# Altium footprint library ICs.PcbLib: 17 footprints (part 1 of 2)
Each footprint in its own frame and in the unit in brackets; x right, y up, seen from the top. Pads: shape width x height; smd on the part's side, far side on the other; paste and mask are expansions set on the pad; w line width, h text height; cw(c..) or ccw(c..) is an arc to the next point about the centre after c.
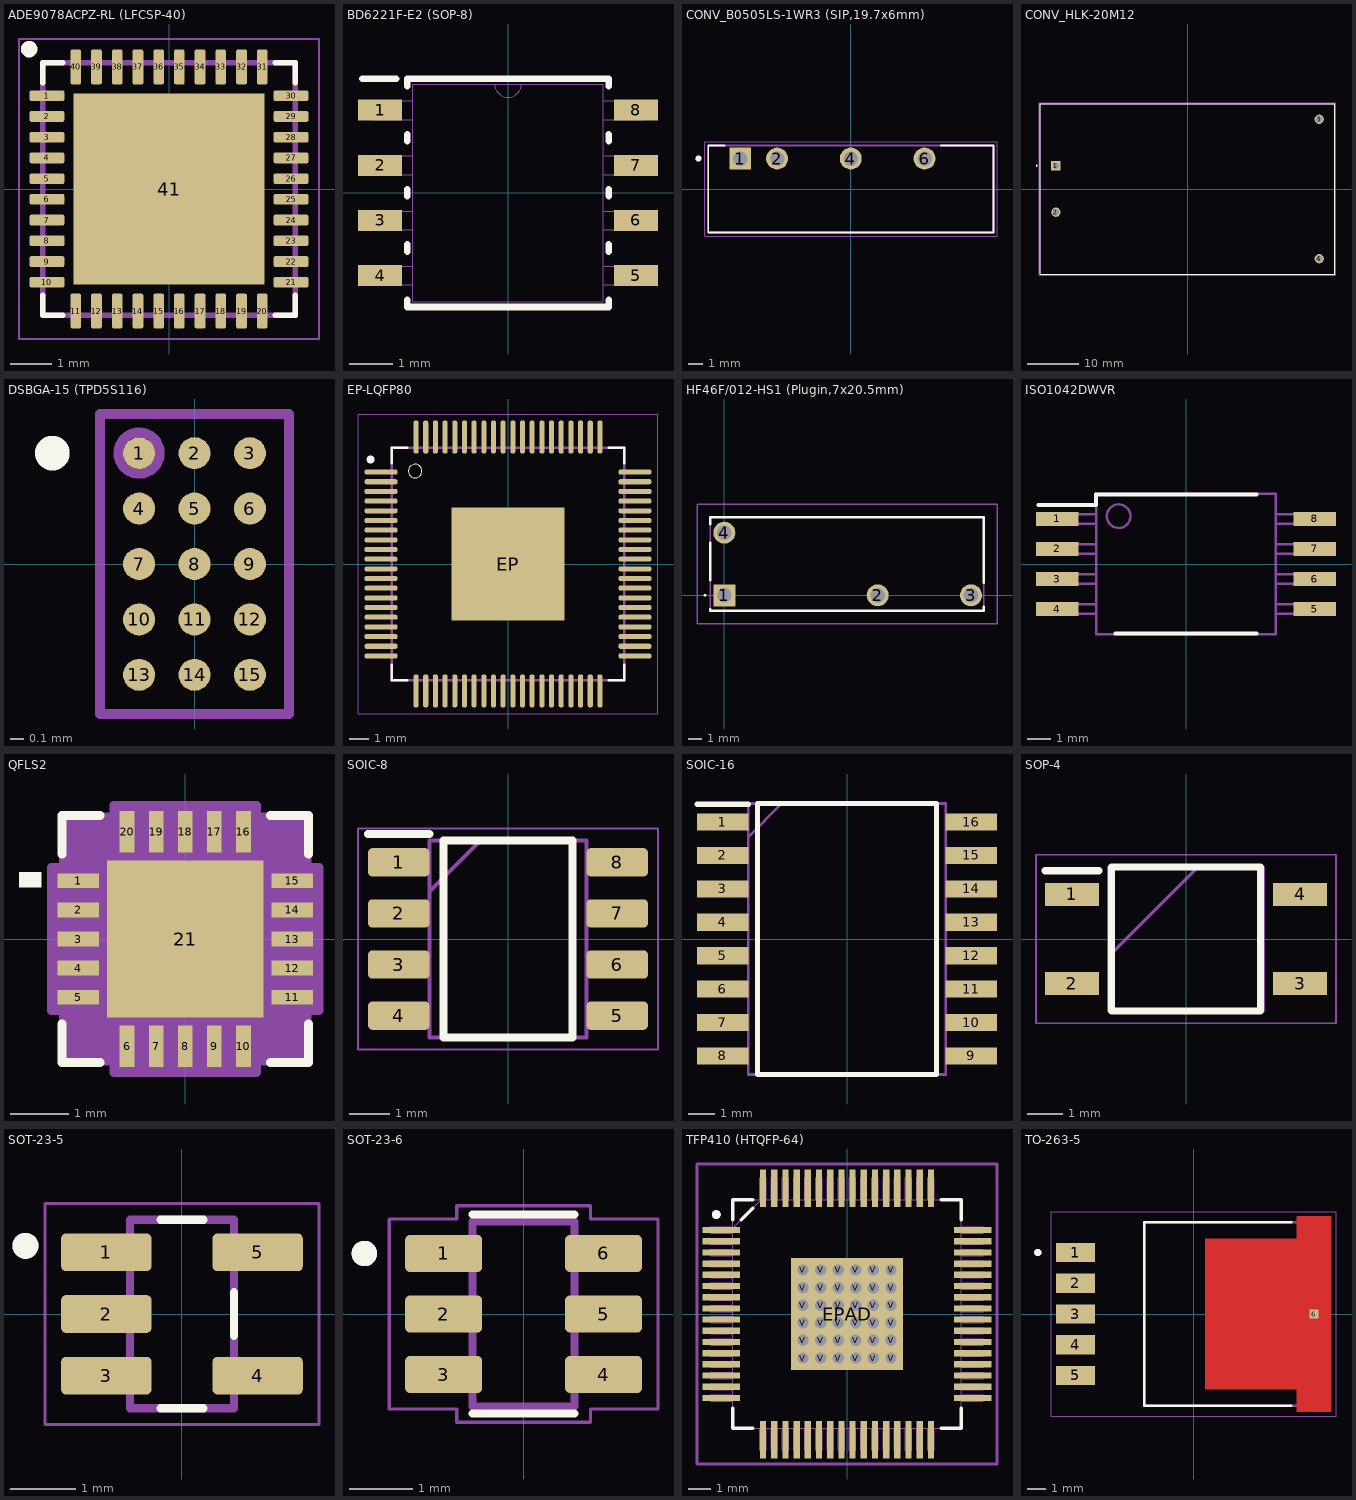
[diagram p0: the footprints below, top view; thin cyan lines are the x and y axes]

## ADE9078ACPZ-RL (LFCSP-40) [mm]
pads (41):
  rrect35% 0.84x0.26 smd: 1(-2.945,2.25) 2(-2.945,1.75) 3(-2.945,1.25) 4(-2.945,0.75) 5(-2.945,0.25) 6(-2.945,-0.25) 7(-2.945,-0.75) 8(-2.945,-1.25) 9(-2.945,-1.75) 10(-2.945,-2.25) 21(2.945,-2.25) 22(2.945,-1.75) 23(2.945,-1.25) 24(2.945,-0.75) 25(2.945,-0.25) 26(2.945,0.25) 27(2.945,0.75) 28(2.945,1.25) 29(2.945,1.75) 30(2.945,2.25)
  rrect35% 0.26x0.84 smd: 11(-2.25,-2.945) 12(-1.75,-2.945) 13(-1.25,-2.945) 14(-0.75,-2.945) 15(-0.25,-2.945) 16(0.25,-2.945) 17(0.75,-2.945) 18(1.25,-2.945) 19(1.75,-2.945) 20(2.25,-2.945) 31(2.25,2.945) 32(1.75,2.945) 33(1.25,2.945) 34(0.75,2.945) 35(0.25,2.945) 36(-0.25,2.945) 37(-0.75,2.945) 38(-1.25,2.945) 39(-1.75,2.945) 40(-2.25,2.945)
  rect 4.6x4.6 smd paste-3: 41(0,0)
Top Overlay:
  circle w0.2: c-3.375,3.375 r0.1
  lines w0.127: -3.05,-2.56 -3.05,-3.05 -2.56,-3.05 ; -3.05,2.56 -3.05,3.05 -2.56,3.05 ; 2.56,-3.05 3.05,-3.05 3.05,-2.56 ; 2.56,3.05 3.05,3.05 3.05,2.56
Top Paste:
  region: 1.455,-1.456 -1.456,-1.456 -1.456,1.455 1.455,1.455
Top Solder:
  region: 2.29,-2.291 -2.291,-2.291 -2.291,2.29 2.29,2.29
Mechanical 13:
  lines w0.127: -3.05,-3.05 3.05,-3.05 3.05,3.05 -3.05,3.05 -3.05,-3.05
Mechanical 15:
  lines w0.05: -3.62,-3.62 3.62,-3.62 3.62,3.62 -3.62,3.62 -3.62,-3.62
3D body "ADE9078ACPZ.STEP": height 0.8, standoff 0, extent -3,-3 3,3

## BD6221F-E2 (SOP-8) [mil]
pads (8):
  rect 40x19 smd paste+0 mask+4: 1(-116,75) 2(-116,25) 3(-116,-25) 4(-116,-75) 5(116,-75) 6(116,-25) 7(116,25) 8(116,75)
Top Overlay:
  lines w5.98: -131.89,103.35 -101.38,103.54
  lines w6: -91.5,-96.8 -91.5,-103.5 91.5,-103.5 91.5,-96.8 ; -91.5,-53.2 -91.5,-46.8 ; -91.5,-3.2 -91.5,3.2 ; -91.5,46.8 -91.5,53.2 ; -91.5,96.8 -91.5,103.5 91.5,103.5 91.5,96.8 ; 91.5,-53.2 91.5,-46.8 ; 91.5,-3.2 91.5,3.2 ; 91.5,46.8 91.5,53.2
Mechanical 13:
  lines w0: -12,98.5 ccw(c0,98.5) 12,98.5
  lines w1: -122,-83.5 -122,-66.5 -86.5,-66.5 -86.5,-83.5 -122,-83.5 ; -122,-33.5 -122,-16.5 -86.5,-16.5 -86.5,-33.5 -122,-33.5 ; -122,16.5 -122,33.5 -86.5,33.5 -86.5,16.5 -122,16.5 ; -122,66.5 -122,83.5 -86.5,83.5 -86.5,66.5 -122,66.5 ; -86.5,-98.5 86.5,-98.5 86.5,98.5 -86.5,98.5 -86.5,-98.5 ; 86.5,-83.5 86.5,-66.5 122,-66.5 122,-83.5 86.5,-83.5 ; 86.5,-33.5 86.5,-16.5 122,-16.5 122,-33.5 86.5,-33.5 ; 86.5,16.5 86.5,33.5 122,33.5 122,16.5 86.5,16.5 ; 86.5,66.5 86.5,83.5 122,83.5 122,66.5 86.5,66.5
3D body "SOP8_ROM.step": height 59.09, standoff 0, extent -122.01,-98.5 122.01,98.5

## CONV_B0505LS-1WR3 (SIP,19.7x6mm) [mm]
pads (4):
  rect 1.508x1.508 hole 1: 1(-7.62,2.1)
  round 1.508 hole 1: 2(-5.08,2.1) 4(0,2.1) 6(5.08,2.1)
Top Overlay:
  circle w0.2: c-10.5,2.1 r0.1
  lines w0.127: -8.7,3 -9.825,3 -9.825,-3 9.825,-3 9.825,3 6.2,3
Mechanical 13:
  circle w0.2: c-10.5,2.1 r0.1
  lines w0.127: -9.825,-3 9.825,-3 9.825,3 -9.825,3 -9.825,-3
Mechanical 15:
  lines w0.05: -10.075,-3.25 -10.075,3.25 10.075,3.25 10.075,-3.25 -10.075,-3.25
3D body "step_temp.STEP": height 10.16, standoff -4.1, extent -9.825,-3 9.825,3

## CONV_HLK-20M12 [mm]
pads (4):
  rect 1.8x1.8 hole 1.2: 1(-25.5,4.5)
  round 1.8 hole 1.2: 2(-25.5,-4.5) 3(25.5,13.5) 4(25.5,-13.5)
Top Overlay:
  circle w0.2: c-29.25,4.5 r0.1
  lines w0.127: -28.5,-16.5 -28.5,16.5 28.5,16.5 28.5,-16.5 -28.5,-16.5
Mechanical 13:
  circle w0.2: c-29.25,4.5 r0.1
  lines w0.127: -28.5,-16.5 -28.5,16.5 28.5,16.5 28.5,-16.5 -28.5,-16.5
Mechanical 15:
  lines w0.05: -28.75,-16.75 -28.75,16.75 28.75,16.75 28.75,-16.75 -28.75,-16.75
3D body "step_temp.STEP": height 22.5, standoff -5, extent -28.5,-16.5 28.5,16.5

## DSBGA-15 (TPD5S116) [mm]
pads (15):
  round 0.23 smd paste-0.102 mask+0.038: 1(-0.4,0.8) 2(0,0.8) 3(0.4,0.8) 4(-0.4,0.4) 5(0,0.4) 6(0.4,0.4) 7(-0.4,0) 8(0,0) 9(0.4,0) 10(-0.4,-0.4) 11(0,-0.4) 12(0.4,-0.4) 13(-0.4,-0.8) 14(0,-0.8) 15(0.4,-0.8)
Top Overlay:
  circle w0.2: c-1.025,0.8 r0.025
Top Paste:
  region: 0.325,0.275 0.275,0.325 0.275,0.475 0.325,0.525 0.475,0.525 0.525,0.475 0.525,0.325 0.475,0.275
  region: 0.325,-0.125 0.275,-0.075 0.275,0.075 0.325,0.125 0.475,0.125 0.525,0.075 0.525,-0.075 0.475,-0.125
  region: 0.325,-0.525 0.275,-0.475 0.275,-0.325 0.325,-0.275 0.475,-0.275 0.525,-0.325 0.525,-0.475 0.475,-0.525
  region: 0.325,-0.925 0.275,-0.875 0.275,-0.725 0.325,-0.675 0.475,-0.675 0.525,-0.725 0.525,-0.875 0.475,-0.925
  region: 0.325,0.675 0.275,0.725 0.275,0.875 0.325,0.925 0.475,0.925 0.525,0.875 0.525,0.725 0.475,0.675
  region: -0.075,0.275 -0.125,0.325 -0.125,0.475 -0.075,0.525 0.075,0.525 0.125,0.475 0.125,0.325 0.075,0.275
  region: -0.075,-0.125 -0.125,-0.075 -0.125,0.075 -0.075,0.125 0.075,0.125 0.125,0.075 0.125,-0.075 0.075,-0.125
  region: -0.075,-0.525 -0.125,-0.475 -0.125,-0.325 -0.075,-0.275 0.075,-0.275 0.125,-0.325 0.125,-0.475 0.075,-0.525
  region: -0.075,-0.925 -0.125,-0.875 -0.125,-0.725 -0.075,-0.675 0.075,-0.675 0.125,-0.725 0.125,-0.875 0.075,-0.925
  region: -0.075,0.675 -0.125,0.725 -0.125,0.875 -0.075,0.925 0.075,0.925 0.125,0.875 0.125,0.725 0.075,0.675
  region: -0.475,0.275 -0.525,0.325 -0.525,0.475 -0.475,0.525 -0.325,0.525 -0.275,0.475 -0.275,0.325 -0.325,0.275
  region: -0.475,-0.125 -0.525,-0.075 -0.525,0.075 -0.475,0.125 -0.325,0.125 -0.275,0.075 -0.275,-0.075 -0.325,-0.125
  region: -0.475,-0.525 -0.525,-0.475 -0.525,-0.325 -0.475,-0.275 -0.325,-0.275 -0.275,-0.325 -0.275,-0.475 -0.325,-0.525
  region: -0.475,-0.925 -0.525,-0.875 -0.525,-0.725 -0.475,-0.675 -0.325,-0.675 -0.275,-0.725 -0.275,-0.875 -0.325,-0.925
  region: -0.475,0.675 -0.525,0.725 -0.525,0.875 -0.475,0.925 -0.325,0.925 -0.275,0.875 -0.275,0.725 -0.325,0.675
Mechanical 13:
  circle w0.07: c-0.4,0.8 r0.15
  lines w0.07: -0.682,-1.082 -0.682,1.082 0.682,1.082 0.682,-1.082 -0.682,-1.082
3D body "TPD5S116YFFR.STEP": height 0.33, standoff -0.3, extent -0.672,-1.128 0.672,1.128

## EP-LQFP80 [mm]
pads (81):
  rrect70% 1.69x0.26 smd: 1(-6.56,4.75) 2(-6.56,4.25) 3(-6.56,3.75) 4(-6.56,3.25) 5(-6.56,2.75) 6(-6.56,2.25) 7(-6.56,1.75) 8(-6.56,1.25) 9(-6.56,0.75) 10(-6.56,0.25) 11(-6.56,-0.25) 12(-6.56,-0.75) 13(-6.56,-1.25) 14(-6.56,-1.75) 15(-6.56,-2.25) 16(-6.56,-2.75) 17(-6.56,-3.25) 18(-6.56,-3.75) 19(-6.56,-4.25) 20(-6.56,-4.75) 41(6.56,-4.75) 42(6.56,-4.25) 43(6.56,-3.75) 44(6.56,-3.25) 45(6.56,-2.75) 46(6.56,-2.25) 47(6.56,-1.75) 48(6.56,-1.25) 49(6.56,-0.75) 50(6.56,-0.25) 51(6.56,0.25) 52(6.56,0.75) 53(6.56,1.25) 54(6.56,1.75) 55(6.56,2.25) 56(6.56,2.75) 57(6.56,3.25) 58(6.56,3.75) 59(6.56,4.25) 60(6.56,4.75)
  rrect70% 0.26x1.69 smd: 21(-4.75,-6.56) 22(-4.25,-6.56) 23(-3.75,-6.56) 24(-3.25,-6.56) 25(-2.75,-6.56) 26(-2.25,-6.56) 27(-1.75,-6.56) 28(-1.25,-6.56) 29(-0.75,-6.56) 30(-0.25,-6.56) 31(0.25,-6.56) 32(0.75,-6.56) 33(1.25,-6.56) 34(1.75,-6.56) 35(2.25,-6.56) 36(2.75,-6.56) 37(3.25,-6.56) 38(3.75,-6.56) 39(4.25,-6.56) 40(4.75,-6.56) 61(4.75,6.56) 62(4.25,6.56) 63(3.75,6.56) 64(3.25,6.56) 65(2.75,6.56) 66(2.25,6.56) 67(1.75,6.56) 68(1.25,6.56) 69(0.75,6.56) 70(0.25,6.56) 71(-0.25,6.56) 72(-0.75,6.56) 73(-1.25,6.56) 74(-1.75,6.56) 75(-2.25,6.56) 76(-2.75,6.56) 77(-3.25,6.56) 78(-3.75,6.56) 79(-4.25,6.56) 80(-4.75,6.56)
  rect 5.85x5.85 smd: EP(0,0)
Top Overlay:
  circle w0.2: c-7.1,5.4 r0.1
  circle w0: c-4.8,4.8 r0.35
  lines w0.127: -6,-5.2 -6,-6 -5.2,-6 ; -6,5.2 -6,6 -5.2,6 ; 5.2,-6 6,-6 6,-5.2 ; 5.2,6 6,6 6,5.2
Mechanical 13:
  lines w0.127: -6,-6 6,-6 6,6 -6,6 -6,-6
Mechanical 15:
  lines w0.05: -7.75,-7.75 7.75,-7.75 7.75,7.75 -7.75,7.75 -7.75,-7.75
3D body "LQFP80.STEP": height 1.6, standoff 0, extent -7,-7 7,7

## HF46F/012-HS1 (Plugin,7x20.5mm) [mm]
pads (4):
  rect 1.65x1.65 hole 1.1: 1(0,0)
  round 1.65 hole 1.1: 2(11.5,0) 3(18.5,0) 4(0,4.7)
Top Overlay:
  lines w0.1: -1.5,0 cw(c-1.45,0) -1.4,0 cw(c-1.45,0) -1.5,0
  lines w0.2: -1.05,-1.05 -1.05,-1.15 19.45,-1.15 19.45,-0.85 ; -1.05,1.15 -1.05,3.95 ; -1.05,5.35 -1.05,5.85 19.45,5.85 19.45,0.95
Mechanical 15:
  lines w0.1: -1.05,-1.15 19.45,-1.15 19.45,5.85 -1.05,5.85 -1.05,-1.15
Mechanical 16:
  lines w0.1: -2.05,-2.15 20.45,-2.15 20.45,6.85 -2.05,6.85 -2.05,-2.15
3D body "relay HF46F.step": height 15.01, standoff -3.99, extent -1.025,-1.2 19.475,5.85

## ISO1042DWVR [mm]
pads (8):
  rect 1.8x0.6 smd paste+0 mask+0.102: 1(-5.45,1.905) 2(-5.45,0.635) 3(-5.45,-0.635) 4(-5.45,-1.905) 5(5.45,-1.905) 6(5.45,-0.635) 7(5.45,0.635) 8(5.45,1.905)
Top Overlay:
  lines w0.17: -6.25,2.5 -3.8,2.5 -3.8,2.95 2.975,2.95 ; -2.975,-2.95 2.975,-2.95
Mechanical 13:
  circle w0.1: c-2.85,2.025 r0.5
  lines w0.1: -3.805,-2.105 -5.8,-2.105 -5.8,-1.705 -3.805,-1.705 ; -3.805,-0.835 -5.8,-0.835 -5.8,-0.435 -3.805,-0.435 ; -3.805,0.435 -5.8,0.435 -5.8,0.835 -3.805,0.835 ; -3.805,1.705 -5.8,1.705 -5.8,2.105 -3.805,2.105 ; 3.805,-2.105 5.8,-2.105 5.8,-1.705 3.805,-1.705 ; 3.805,-0.835 5.8,-0.835 5.8,-0.435 3.805,-0.435 ; 3.805,0.435 5.8,0.435 5.8,0.835 3.805,0.835 ; 3.805,1.705 5.8,1.705 5.8,2.105 3.805,2.105 ; -3.8,-2.975 -3.8,2.975 3.8,2.975 3.8,-2.975 -3.8,-2.975
3D body "ISO1042BDWV.STEP": height 2.8, standoff 0, extent -5.75,-2.925 5.75,2.925

## QFLS2 [mil]
pads (21):
  rect 28x10 smd paste+0 mask+4: 1(-72.5,39.38) 2(-72.5,19.69) 3(-72.5,0) 4(-72.5,-19.69) 5(-72.5,-39.38) 11(72.5,-39.38) 12(72.5,-19.69) 13(72.5,0) 14(72.5,19.69) 15(72.5,39.38)
  rect 10x28 smd paste+0 mask+4: 6(-39.38,-72.5) 7(-19.69,-72.5) 8(0,-72.5) 9(19.69,-72.5) 10(39.38,-72.5) 16(39.38,72.5) 17(19.69,72.5) 18(0,72.5) 19(-19.69,72.5) 20(-39.38,72.5)
  rect 106x106 smd paste-53 mask+4: 21(0,0)
Top Overlay:
  region: -112.5,45 -97.5,45 -97.5,35 -112.5,35
  lines w6: -83.5,-57.48 -83.5,-83.5 -57.48,-83.5 ; -83.5,57.48 -83.5,83.5 -57.48,83.5 ; 57.48,-83.5 83.5,-83.5 83.5,-57.48 ; 57.48,83.5 83.5,83.5 83.5,57.48
Top Paste:
  region: -3.94,49.06 -49.06,49.06 -49.06,3.94 -3.94,3.94
  region: -3.94,-3.94 -49.06,-3.94 -49.06,-49.06 -3.94,-49.06
  region: 49.06,49.06 3.94,49.06 3.94,3.94 49.06,3.94
  region: 49.06,-3.94 3.94,-3.94 3.94,-49.06 49.06,-49.06
Mechanical 13:
  lines w1: -78.5,28.5 -28.5,78.5 ; -78.5,-78.5 78.5,-78.5 78.5,78.5 -78.5,78.5 -78.5,-78.5 ; -78.5,-45.38 -78.5,-33.38 -78.5,-45.38 ; -78.5,-25.69 -78.5,-13.69 -78.5,-25.69 ; -78.5,-6 -78.5,6 -78.5,-6 ; -78.5,13.69 -78.5,25.69 -78.5,13.69 ; -78.5,33.38 -78.5,45.38 -78.5,33.38 ; -45.38,-78.5 -33.38,-78.5 -45.38,-78.5 ; -45.38,78.5 -33.38,78.5 -45.38,78.5 ; -25.69,-78.5 -13.69,-78.5 -25.69,-78.5 ; -25.69,78.5 -13.69,78.5 -25.69,78.5 ; -6,-78.5 6,-78.5 -6,-78.5 ; -6,78.5 6,78.5 -6,78.5 ; 13.69,-78.5 25.69,-78.5 13.69,-78.5 ; 13.69,78.5 25.69,78.5 13.69,78.5 ; 33.38,-78.5 45.38,-78.5 33.38,-78.5 ; 33.38,78.5 45.38,78.5 33.38,78.5 ; 78.5,-45.38 78.5,-33.38 78.5,-45.38 ; 78.5,-25.69 78.5,-13.69 78.5,-25.69 ; 78.5,-6 78.5,6 78.5,-6 ; 78.5,13.69 78.5,25.69 78.5,13.69 ; 78.5,33.38 78.5,45.38 78.5,33.38
  text "*" at -71,24.23 h50
Mechanical 15:
  region: -48.38,-82.5 -82.5,-82.5 -82.5,-48.38 -90.5,-48.38 -90.5,48.38 -82.5,48.38 -82.5,82.5 -48.38,82.5 -48.38,90.5 48.38,90.5 48.38,82.5 82.5,82.5 82.5,48.38 90.5,48.38 90.5,-48.38 82.5,-48.38 82.5,-82.5 48.38,-82.5 48.38,-90.5 -48.38,-90.5
  lines w6: -90.5,-48.38 -82.5,-48.38 -82.5,-82.5 -48.38,-82.5 -48.38,-90.5 48.38,-90.5 48.38,-82.5 82.5,-82.5 82.5,-48.38 90.5,-48.38 90.5,48.38 82.5,48.38 82.5,82.5 48.38,82.5 48.38,90.5 -48.38,90.5 -48.38,82.5 -82.5,82.5 -82.5,48.38 -90.5,48.38 -90.5,-48.38
3D body "IS31CG1110-QFLS2_ISI.step": height 39.09, standoff 0, extent -78.5,-78.5 78.5,78.5

## SOIC-8 [mm]
pads (8):
  rrect30% 1.525x0.7 smd: 1(-2.712,1.905) 2(-2.712,0.635) 3(-2.712,-0.635) 4(-2.712,-1.905) 5(2.712,-1.905) 6(2.712,-0.635) 7(2.712,0.635) 8(2.712,1.905)
Top Overlay:
  lines w0.2: -3.475,2.605 -1.95,2.605 ; -1.6,-2.45 1.6,-2.45 1.6,2.45 -1.6,2.45 -1.6,-2.45
Mechanical 15:
  lines w0.1: -1.95,1.18 -0.68,2.45 ; -1.95,-2.45 1.95,-2.45 1.95,2.45 -1.95,2.45 -1.95,-2.45
Mechanical 16:
  lines w0.05: -3.725,-2.75 3.725,-2.75 3.725,2.75 -3.725,2.75 -3.725,-2.75
3D body "TC1044SEOA SOIC8-N_MC_MCH.step": height 1.76, standoff 0, extent -2.997,-2.451 2.997,2.451

## SOIC-16 [mm]
pads (16):
  rect 1.95x0.65 smd: 1(-4.725,4.445) 2(-4.725,3.175) 3(-4.725,1.905) 4(-4.725,0.635) 5(-4.725,-0.635) 6(-4.725,-1.905) 7(-4.725,-3.175) 8(-4.725,-4.445) 9(4.725,-4.445) 10(4.725,-3.175) 11(4.725,-1.905) 12(4.725,-0.635) 13(4.725,0.635) 14(4.725,1.905) 15(4.725,3.175) 16(4.725,4.445)
Top Overlay:
  lines w0.2: -5.7,5.12 -3.75,5.12 ; -3.4,-5.15 3.4,-5.15 3.4,5.15 -3.4,5.15 -3.4,-5.15
Mechanical 15:
  lines w0.1: -3.75,3.88 -2.48,5.15 ; -3.75,-5.15 3.75,-5.15 3.75,5.15 -3.75,5.15 -3.75,-5.15
3D body "SOIC08_7P5X10P3_TEX.step": height 2.64, standoff 0, extent -5.321,-5.156 5.321,5.156

## SOP-4 [mm]
pads (4):
  rect 1.55x0.65 smd: 1(-3.25,1.27) 2(-3.25,-1.27) 3(3.25,-1.27) 4(3.25,1.27)
Top Overlay:
  lines w0.2: -4.025,1.945 -2.475,1.945 ; -2.125,-2.05 -2.125,2.05 2.125,2.05 2.125,-2.05 -2.125,-2.05
Mechanical 15:
  lines w0.1: -2.2,-0.49 0.34,2.05 ; -2.2,-2.05 -2.2,2.05 2.2,2.05 2.2,-2.05 -2.2,-2.05
Mechanical 16:
  lines w0.05: -4.275,-2.4 -4.275,2.4 4.275,2.4 4.275,-2.4 -4.275,-2.4
3D body "EL357N(B)(TA)-G.STEP": height 2, standoff 0, extent -3.5,-2.05 3.5,2.05

## SOT-23-5 [mm]
pads (5):
  rrect25% 1.39x0.58 smd: 1(-1.165,0.95) 2(-1.165,0) 3(-1.165,-0.95) 4(1.165,-0.95) 5(1.165,0.95)
Top Overlay:
  circle w0.2: c-2.41,1.05 r0.1
  lines w0.127: -0.33,-1.45 0.33,-1.45 ; -0.33,1.45 0.33,1.45 ; 0.8,-0.335 0.8,0.335
Mechanical 13:
  circle w0.2: c-2.41,1.05 r0.1
  lines w0.127: -0.8,-1.45 0.8,-1.45 0.8,1.45 -0.8,1.45 -0.8,-1.45
Mechanical 15:
  lines w0.05: -2.11,-1.7 -2.11,1.7 2.11,1.7 2.11,-1.7 -2.11,-1.7
3D body "MIC5504-3.3YM5 TR.STEP": height 1.45, standoff 0, extent -1.35,-1.45 1.35,1.45

## SOT-23-6 [mm]
pads (6):
  rrect25% 1.21x0.58 smd: 1(-1.255,0.95) 2(-1.255,0) 3(-1.255,-0.95) 4(1.255,-0.95) 5(1.255,0) 6(1.255,0.95)
Top Overlay:
  circle w0.2: c-2.5,0.95 r0.1
  lines w0.127: -0.8,-1.56 0.8,-1.56 ; -0.8,1.56 0.8,1.56
Mechanical 13:
  circle w0.2: c-2.5,0.95 r0.1
  lines w0.127: -0.8,-1.45 -0.8,1.45 0.8,1.45 0.8,-1.45 -0.8,-1.45
Mechanical 15:
  lines w0.05: -2.11,-1.49 -2.11,1.49 -1.05,1.49 -1.05,1.7 1.05,1.7 1.05,1.49 2.11,1.49 2.11,-1.49 1.05,-1.49 1.05,-1.7 -1.05,-1.7 -1.05,-1.49 -2.11,-1.49
3D body "step_temp.STEP": height 1.45, standoff 0, extent -1.4,-1.45 1.4,1.45

## TFP410 (HTQFP-64) [mil]
pads (101):
  rect 65.5x11 smd paste-32.75 mask+4: 1(-221.25,147.64) 2(-221.25,127.95) 3(-221.25,108.27) 4(-221.25,88.58) 5(-221.25,68.9) 6(-221.25,49.21) 7(-221.25,29.53) 8(-221.25,9.84) 9(-221.25,-9.84) 10(-221.25,-29.53) 11(-221.25,-49.21) 12(-221.25,-68.9) 13(-221.25,-88.58) 14(-221.25,-108.27) 15(-221.25,-127.95) 16(-221.25,-147.64) 33(221.25,-147.64) 34(221.25,-127.95) 35(221.25,-108.27) 36(221.25,-88.58) 37(221.25,-68.9) 38(221.25,-49.21) 39(221.25,-29.53) 40(221.25,-9.84) 41(221.25,9.84) 42(221.25,29.53) 43(221.25,49.21) 44(221.25,68.9) 45(221.25,88.58) 46(221.25,108.27) 47(221.25,127.95) 48(221.25,147.64)
  rect 11x65.5 smd paste-32.75 mask+4: 17(-147.64,-221.25) 18(-127.95,-221.25) 19(-108.27,-221.25) 20(-88.58,-221.25) 21(-68.9,-221.25) 22(-49.21,-221.25) 23(-29.53,-221.25) 24(-9.84,-221.25) 25(9.84,-221.25) 26(29.53,-221.25) 27(49.21,-221.25) 28(68.9,-221.25) 29(88.58,-221.25) 30(108.27,-221.25) 31(127.95,-221.25) 32(147.64,-221.25) 49(147.64,221.25) 50(127.95,221.25) 51(108.27,221.25) 52(88.58,221.25) 53(68.9,221.25) 54(49.21,221.25) 55(29.53,221.25) 56(9.84,221.25) 57(-9.84,221.25) 58(-29.53,221.25) 59(-49.21,221.25) 60(-68.9,221.25) 61(-88.58,221.25) 62(-108.27,221.25) 63(-127.95,221.25) 64(-147.64,221.25)
  rect 196.85x196.85 smd paste-97.93 mask+4: EPAD(0,0)
  round 20 / inner round 60 / far side round 20 hole 20 unplated paste-10 mask+4: V(-77.5,-77.5) V(-77.5,-46.5) V(-77.5,-15.5) V(-77.5,15.5) V(-77.5,46.5) V(-77.5,77.5) V(-46.5,-77.5) V(-46.5,-46.5) V(-46.5,-15.5) V(-46.5,15.5) V(-46.5,46.5) V(-46.5,77.5) V(-15.5,-77.5) V(-15.5,-46.5) V(-15.5,-15.5) V(-15.5,15.5) V(-15.5,46.5) V(-15.5,77.5) V(15.5,-77.5) V(15.5,-46.5) V(15.5,-15.5) V(15.5,15.5) V(15.5,46.5) V(15.5,77.5) V(46.5,-77.5) V(46.5,-46.5) V(46.5,-15.5) V(46.5,15.5) V(46.5,46.5) V(46.5,77.5) V(77.5,-77.5) V(77.5,-46.5) V(77.5,-15.5) V(77.5,15.5) V(77.5,46.5) V(77.5,77.5)
Top Overlay:
  circle w7.87: c-230,175 r3.94
  lines w6: -201,-166.24 -201,-201 -166.24,-201 ; -201,166.24 -201,201 -166.24,201 ; -186,166 -166,186 ; 166.24,-201 201,-201 201,-166.24 ; 166.24,201 201,201 201,166.24
Top Paste:
  drawing of 49 lines, arcs and shapes, not listed
Top Solder:
  region: -100.93,85.37 -100.93,100.93 100.93,100.93 100.93,85.37
  region: -100.93,54.37 -100.93,69.63 100.93,69.63 100.93,54.37
  region: -100.93,23.37 -100.93,38.63 100.93,38.63 100.93,23.37
  region: -100.93,-7.63 -100.93,7.63 100.93,7.63 100.93,-7.63
  region: -100.93,-38.63 -100.93,-23.37 100.93,-23.37 100.93,-38.63
  region: -100.93,-69.63 -100.93,-54.37 100.93,-54.37 100.93,-69.63
  region: -100.93,-100.93 -100.93,-85.37 100.93,-85.37 100.93,-100.93
  region: -100.93,-100.93 -100.93,100.93 -85.37,100.93 -85.37,-100.93
  region: -54.37,-100.93 -54.37,100.93 -69.63,100.93 -69.63,-100.93
  region: -23.37,-100.93 -23.37,100.93 -38.63,100.93 -38.63,-100.93
  region: 7.63,-100.93 7.63,100.93 -7.63,100.93 -7.63,-100.93
  region: 38.63,-100.93 38.63,100.93 23.37,100.93 23.37,-100.93
  region: 69.63,-100.93 69.63,100.93 54.37,100.93 54.37,-100.93
  region: 85.37,-100.93 85.37,100.93 100.93,100.93 100.93,-100.93
Mechanical 13:
  drawing of 261 lines, arcs and shapes, not listed
Mechanical 15:
  lines w6: -264,-264 -264,264 264,264 264,-264 -264,-264
3D body "PAP64_5X5.step": height 47.09, standoff 0, extent -240,-240 240,240

## TO-263-5 [mm]
pads (6):
  rect 2.16x1.07 smd: 1(-6.545,3.4) 2(-6.545,1.7) 3(-6.545,0) 4(-6.545,-1.7) 5(-6.545,-3.4)
  rect 0.5x0.5 smd paste-1 mask+0: 6(6.67,0)
Top Layer:
  region: 7.625,-5.4 5.715,-5.4 5.715,-4.165 0.635,-4.165 0.635,4.165 5.715,4.165 5.715,5.4 7.625,5.4
Top Overlay:
  circle w0.2: c-8.625,3.4 r0.1
  lines w0.127: 5.395,-5.08 -2.735,-5.08 -2.735,5.08 5.395,5.08
Top Paste:
  region: 7.095,-5.335 6.245,-5.335 6.245,-4.115 7.095,-4.115
  region: 7.095,-3.985 6.245,-3.985 6.245,-2.765 7.095,-2.765
  region: 7.095,-2.635 6.245,-2.635 6.245,-1.415 7.095,-1.415
  region: 7.095,-1.285 6.245,-1.285 6.245,-0.065 7.095,-0.065
  region: 7.095,4.115 6.245,4.115 6.245,5.335 7.095,5.335
  region: 7.095,2.765 6.245,2.765 6.245,3.985 7.095,3.985
  region: 7.095,1.415 6.245,1.415 6.245,2.635 7.095,2.635
  region: 7.095,0.065 6.245,0.065 6.245,1.285 7.095,1.285
  region: 5.145,-3.875 3.745,-3.875 3.745,-2.365 5.145,-2.365
  region: 2.605,-3.875 1.205,-3.875 1.205,-2.365 2.605,-2.365
  region: 5.145,-1.795 3.745,-1.795 3.745,-0.285 5.145,-0.285
  region: 2.605,-1.795 1.205,-1.795 1.205,-0.285 2.605,-0.285
  region: 5.145,2.365 3.745,2.365 3.745,3.875 5.145,3.875
  region: 5.145,0.285 3.745,0.285 3.745,1.795 5.145,1.795
  region: 2.605,2.365 1.205,2.365 1.205,3.875 2.605,3.875
  region: 2.605,0.285 1.205,0.285 1.205,1.795 2.605,1.795
Top Solder:
  region: 7.725,-5.5 5.615,-5.5 5.615,-4.265 0.535,-4.265 0.535,4.265 5.615,4.265 5.615,5.5 7.725,5.5
Mechanical 13:
  circle w0.2: c-8.625,3.4 r0.1
  lines w0.127: -2.735,-5.08 5.905,-5.08 5.905,5.08 -2.735,5.08 -2.735,-5.08
Mechanical 15:
  lines w0.05: -7.875,-5.65 7.875,-5.65 7.875,5.65 -7.875,5.65 -7.875,-5.65
3D body "step_temp.STEP": height 4.65, standoff -0.15, extent -7.175,-5.08 7.175,5.08